# Altium footprint library pushButton_12mm.PcbLib: 1 footprints
Each footprint in its own frame and in the unit in brackets; x right, y up, seen from the top. Pads: shape width x height; smd on the part's side, far side on the other; paste and mask are expansions set on the pad; w line width, h text height; cw(c..) or ccw(c..) is an arc to the next point about the centre after c.
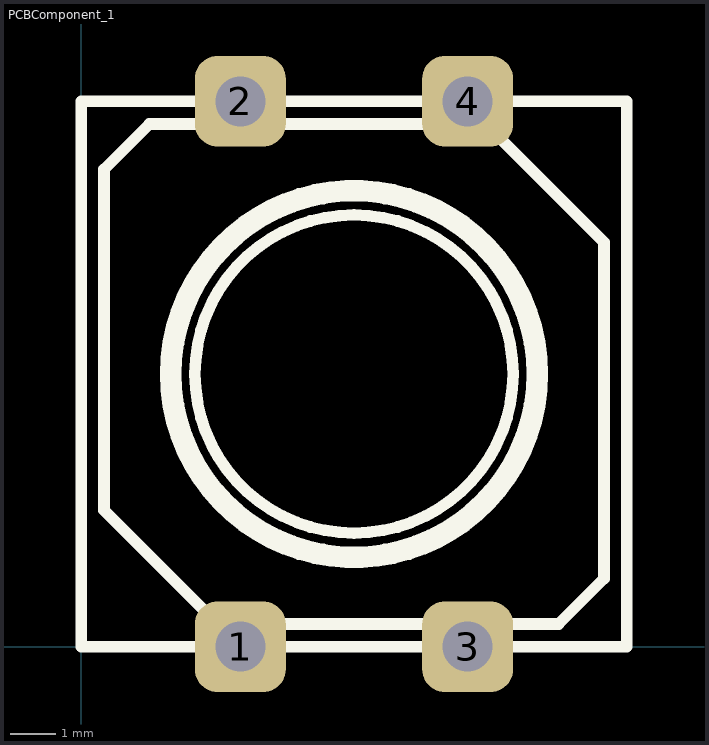
[diagram p0: the footprint, top view; thin cyan lines are the x and y axes]

## PCBComponent_1 [mm]
pads (4):
  rrect50% 2x2 hole 1.1: 1(3.5,0) 2(3.5,12) 3(8.5,0) 4(8.5,12)
Top Overlay:
  circle w0.254: c6,6 r4.144
  circle w0.254: c6,6 r3.92
  circle w0.254: c6,6 r3.5
  lines w0.254: 0,0 0,12 12,12 12,0 8.5,0 3.5,0 0,0 ; 0.5,3 3,0.5 10.5,0.5 11.5,1.5 11.5,8.9 8.9,11.5 1.5,11.5 0.5,10.5 0.5,3
3D body: height 11, standoff -1, extent 0,-0.935 12,12.935